# Altium schematic symbol library PAPIR12M.SchLib: 1 symbol
Pins are listed as number, name and electrical type; pins without a type are passive.

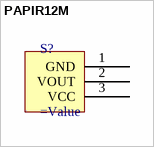
[diagram p0: symbol PAPIR12M]

## PAPIR12M
designator S?
=Description
pins: 1 GND, 2 VOUT, 3 VCC